# EAGLE library part CD74HC165 (library PP_DigitalIC)
Manufacturer Part #: CD74HC165 Manufacturer: Texas Instruments Description: Counter Shift Registers High Speed CMOS 8-Bit Shift Register
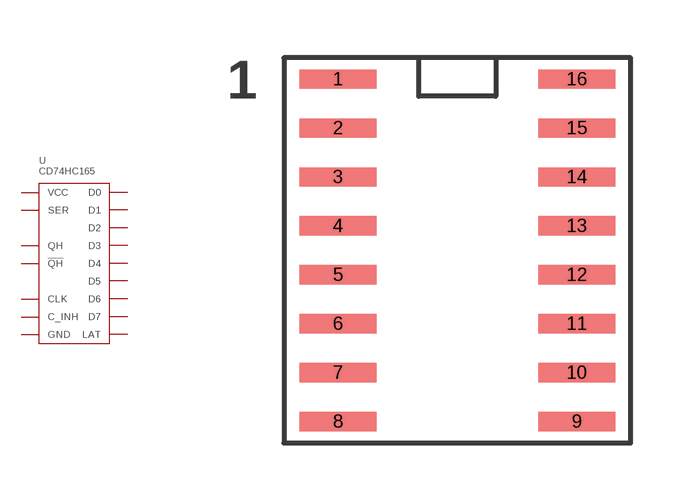
[diagram p7: symbol with the pads of CD74HC165_SOIC-16; footprint CD74HC165_SOIC-16]

Designator prefix U

## CD74HC165M96  [CD74HC165_SOIC-16]
1  LAT
2  CLK
3  D4
4  D5
5  D6
6  D7
7  QH'
8  GND
9  QH
10  SER
11  D0
12  D1
13  D2
14  D3
15  C_INH
16  VCC

## Footprint CD74HC165_SOIC-16 (pad centres in mm)
smd 2 x 0.5: 1 -3.1,4.445; 2 -3.1,3.175; 3 -3.1,1.905; 4 -3.1,0.635; 5 -3.1,-0.635; 6 -3.1,-1.905; 7 -3.1,-3.175; 8 -3.1,-4.445; 9 3.1,-4.445; 10 3.1,-3.175; 11 3.1,-1.905; 12 3.1,-0.635; 13 3.1,0.635; 14 3.1,1.905; 15 3.1,3.175; 16 3.1,4.445